# Altium schematic symbol library ERJ-1GNF2403C.SchLib: 1 symbol
Pins are listed as number, name and electrical type; pins without a type are passive.

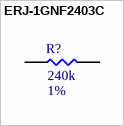
[diagram p0: symbol ERJ-1GNF2403C]

## ERJ-1GNF2403C
designator R?  Resistance: 240k  Tolerance: 1%  (hidden comment: ERJ-1GNF2403C)
RES SMD 240K OHM 1% 1/20W 0201; MFR: Panasonic Electronic Components; PN: ERJ-1GNF2403C; Footprint: RES0201; Package: 0201; ComponentLink1Description: Datasheet; ComponentLink1URL: https://industrial.panasonic.com/cdbs/www-data/pdf/RDA0000/AOA0000C304.pdf; Power Rating: 1/20W; Supplier 1: Mouser; Supplier Part Number 1: 667-ERJ-1GNF2403C
footprint RES0201 (A generic 0201 footprint)
pins: 1, 2